# EAGLE library part AD1938YSTZ (library Deegou_IC)
AD1938YSTZ, Audio Codec 4 (ADC), 8 (DAC)-channel 24bit- 192ksps Serial-I2C, Serial-SPI 48-Pin MA BGA Source: Datasheet <http://www.analog.com/static/imported-files/data_sheets/AD1938.pdf>
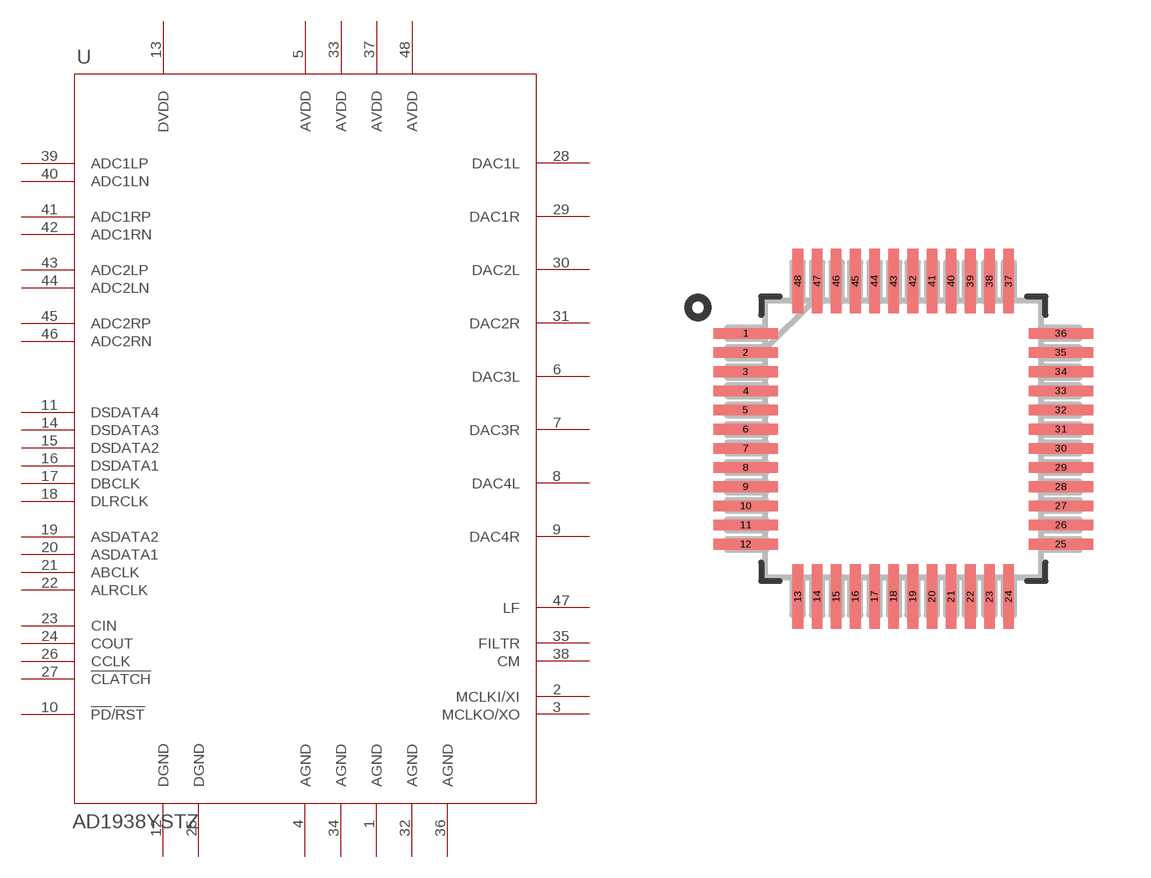
[diagram p68: symbol with the pads of ST_48; footprint ST_48]

Designator prefix U

## AD1938YSTZ (DESCRIPTION: AD1938YSTZ, Audio Codec 4 (ADC), 8 (DAC)-channel 24bit- 192ksps Serial-I2C, Serial-SPI 48-Pin MA BGA; HEIGHT: 1.6mm; MANUFACTURER_NAME: Analog Devices; MANUFACTURER_PART_NUMBER: AD1938YSTZ; MOUSER_PART_NUMBER: 584-AD1938YSTZ; MOUSER_PRICE-STOCK: https://www.mouser.com/Search/Refine.aspx?Keyword=584-AD1938YSTZ; RS_PART_NUMBER: 7089952P; RS_PRICE-STOCK: http://uk.rs-online.com/web/p/products/7089952P)  [ST_48]
1  AGND  pas
2  MCLKI/XI  in
3  MCLKO/XO  out
4  AGND  pas
5  AVDD  pwr
6  DAC3L  out
7  DAC3R  out
8  DAC4L  out
9  DAC4R  out
10  !PD!/!RST  pas
11  DSDATA4  in
12  DGND  pas
13  DVDD  pwr
14  DSDATA3  in
15  DSDATA2  in
16  DSDATA1  in
17  DBCLK  pas
18  DLRCLK  pas
19  ASDATA2  pas
20  ASDATA1  pas
21  ABCLK  pas
22  ALRCLK  pas
23  CIN  in
24  COUT  out
25  DGND  pas
26  CCLK  in
27  !CLATCH  pas
28  DAC1L  out
29  DAC1R  out
30  DAC2L  out
31  DAC2R  out
32  AGND  pas
33  AVDD  pwr
34  AGND  pas
35  FILTR  pas
36  AGND  pas
37  AVDD  pwr
38  CM  pas
39  ADC1LP  in
40  ADC1LN  in
41  ADC1RP  pas
42  ADC1RN  in
43  ADC2LP  pas
44  ADC2LN  pas
45  ADC2RP  pas
46  ADC2RN  pas
47  LF  pas
48  AVDD  pwr

## Footprint ST_48 (pad centres in mm)
smd 1.676 x 0.279: 1 -4.115,2.75; 2 -4.115,2.25; 3 -4.115,1.75; 4 -4.115,1.25; 5 -4.115,0.75; 6 -4.115,0.25; 7 -4.115,-0.25; 8 -4.115,-0.75; 9 -4.115,-1.25; 10 -4.115,-1.75; 11 -4.115,-2.25; 12 -4.115,-2.75; 25 4.115,-2.75; 26 4.115,-2.25; 27 4.115,-1.75; 28 4.115,-1.25; 29 4.115,-0.75; 30 4.115,-0.25; 31 4.115,0.25; 32 4.115,0.75; 33 4.115,1.25; 34 4.115,1.75; 35 4.115,2.25; 36 4.115,2.75
smd 0.279 x 1.676: 13 -2.75,-4.115; 14 -2.25,-4.115; 15 -1.75,-4.115; 16 -1.25,-4.115; 17 -0.75,-4.115; 18 -0.25,-4.115; 19 0.25,-4.115; 20 0.75,-4.115; 21 1.25,-4.115; 22 1.75,-4.115; 23 2.25,-4.115; 24 2.75,-4.115; 37 2.75,4.115; 38 2.25,4.115; 39 1.75,4.115; 40 1.25,4.115; 41 0.75,4.115; 42 0.25,4.115; 43 -0.25,4.115; 44 -0.75,4.115; 45 -1.25,4.115; 46 -1.75,4.115; 47 -2.25,4.115; 48 -2.75,4.115